# EAGLE library part TS3A24157 (library rgb_cube)
2:1 Multiplexer / Demultiplexer This part is an analog multiplexer / demultiplexer for a wide range of signals, including audio and UART. Datasheet <http://focus.ti.com/lit/ds/symlink/ts3a24157.pdf>
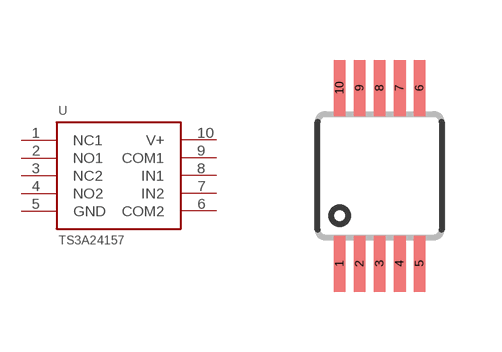
[diagram p38: symbol with the pads of TI-DGS; footprint TI-DGS]

Designator prefix -

## TS3A24157  [TI-DGS]
1  NC1
2  NO1
3  NC2
4  NO2
5  GND
6  COM2
7  IN2
8  IN1
9  COM1
10  V+

## Footprint TI-DGS (pad centres in mm)
TI DGS / MAXIM 10L uMAX/uSOP 0.5 mm pin spacing, 5 mm pin span
smd 0.3 x 1.4: 1 -1,-2.2; 2 -0.5,-2.2; 3 0,-2.2; 4 0.5,-2.2; 5 1,-2.2; 6 1,2.2; 7 0.5,2.2; 8 0,2.2; 9 -0.5,2.2; 10 -1,2.2